# Altium schematic symbol library 2、99格式原理图库.SchLib: 16 symbols
Pins are listed as number, name and electrical type; pins without a type are passive.

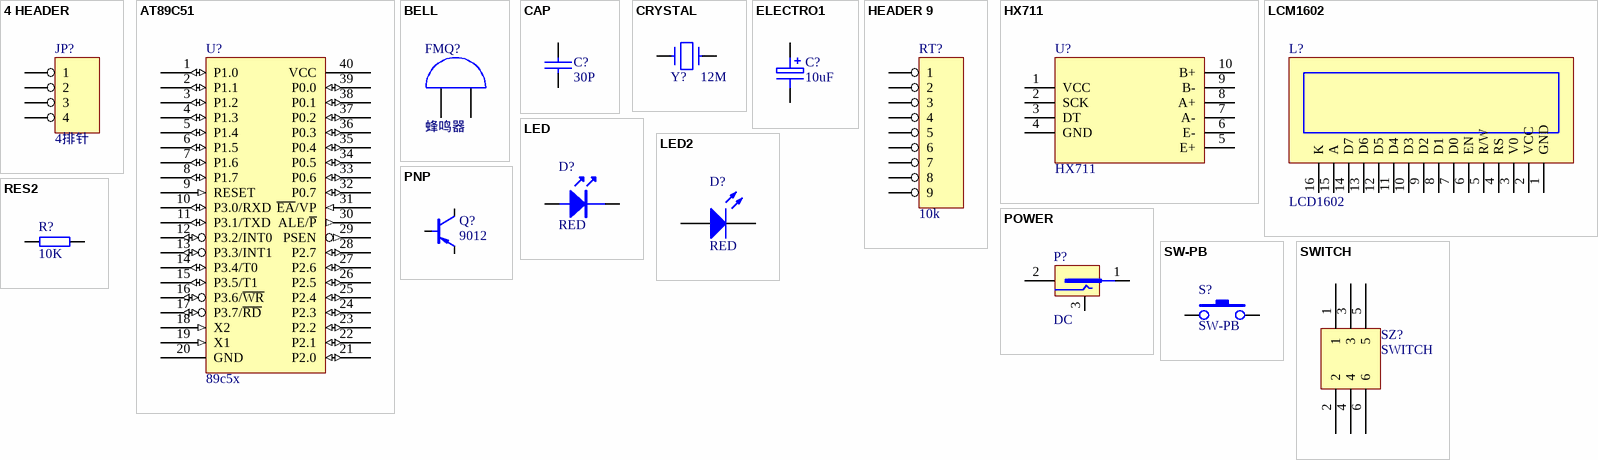
[diagram p0: symbols 4 HEADER to SWITCH]

## 4 HEADER
designator JP?, comment 4排针
压力传感器接口
footprint SIPA04
pins: 1, 2, 3, 4

## AT89C51
designator U?, comment 89c5x
51单片机
footprint DIP40
pins: 1 P1.0 (io), 2 P1.1 (io), 3 P1.2 (io), 4 P1.3 (io), 5 P1.4 (io), 6 P1.5 (io), 7 P1.6 (io), 8 P1.7 (io), 9 RESET (in), 10 P3.0/RXD (io), 11 P3.1/TXD (io), 12 P3.2/INT0 (io), 13 P3.3/INT1 (io), 14 P3.4/T0 (io), 15 P3.5/T1 (io), 16 P3.6/~{WR} (io), 17 P3.7/~{RD} (io), 18 X2 (in), 19 X1 (in), 20 GND, 21 P2.0 (io), 22 P2.1 (io), 23 P2.2 (io), 24 P2.3 (io), 25 P2.4 (io), 26 P2.5 (io), 27 P2.6 (io), 28 P2.7 (io), 29 PSEN (out), 30 ALE/~{P} (out), 31 ~{EA}/VP (in), 32 P0.7 (io), 33 P0.6 (io), 34 P0.5 (io), 35 P0.4 (io), 36 P0.3 (io), 37 P0.2 (io), 38 P0.1 (io), 39 P0.0 (io), 40 VCC

## BELL
designator FMQ?, comment 蜂鸣器
footprint BELL
pins: 1 A, 2 B

## CAP
designator C?, comment 30P
电容
footprint CAP-2.54
pins: 1, 2

## CRYSTAL
designator Y?, comment 12M
晶振
footprint XTAL
pins: 1, 2

## ELECTRO1
designator C?, comment 10uF
电容
footprint 25V/4.7U
pins: 1, 2

## HEADER 9
designator RT?, comment 10k
排阻
footprint SIP9
pins: 1, 2, 3, 4, 5, 6, 7, 8, 9

## HX711
designator U?
AD模块
footprint HX711
pins: 1 VCC, 2 SCK, 3 DT, 4 GND, 5 E+, 6 E-, 7 A-, 8 A+, 9 B-, 10 B+

## LCM1602
designator L?, comment LCD1602
液晶显示屏
footprint LCD1602
pins: 1 GND, 2 VCC, 3 V0, 4 RS, 5 R/W, 6 EN, 7 D0, 8 D1, 9 D2, 10 D3, 11 D4, 12 D5, 13 D6, 14 D7, 15 A, 16 K

## LED
designator D?, comment RED
5MM  红色发光二极管
footprint LED5MM-RED
pins: 1, 2

## LED2
designator D?, comment RED
3MM　红色发光二极管; Published: 8-Jun-2000; LatestRevisionDate: 17-Jul-2002; LatestRevisionNote: Re-released for DXP Platform.; PackageDocument: Feb-2002; PackageReference: 3.2X1.6X1.1; Publisher: Altium Limited
footprint LED-3mm
simulation model LED2 (Diode)
pins: 1 A, 2 K

## PNP
designator Q?, comment 9012
PNP三极管
footprint NPN
pins: 1 b, 2 e, 3 C

## POWER
designator P?, comment DC
DC电源座子
footprint POWER
footprint DC002
pins: 1, 2, 3

## RES2
designator R?, comment 10K
电阻
footprint 1/4W
footprint AXIAL-0.4
pins: 1, 2

## SW-PB
designator S?
微动开关
footprint SW2
footprint SW-PB
pins: 1, 2

## SWITCH
designator SZ?
电源开关
footprint SWITCH
footprint SW7x7
pins: 1, 2, 3, 4, 5, 6